# EAGLE library part TCA62724 (library tmxk)
Toshiba TCA62724FMG I2C RGB LED driver
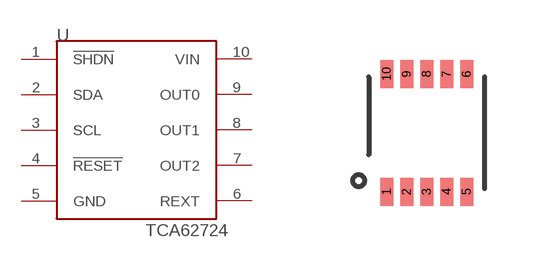
[diagram p31: symbol with the pads of SON10; footprint SON10]

Designator prefix U

## TCA62724  [SON10]
1  !SHDN  in
2  SDA
3  SCL
4  !RESET  in
5  GND  pwr
6  REXT
7  OUT2  oc
8  OUT1  oc
9  OUT0  oc
10  VIN  pwr

## Footprint SON10 (pad centres in mm)
smd 0.32 x 0.7: 1 -1,-1.475; 2 -0.5,-1.475; 3 0,-1.475; 4 0.5,-1.475; 5 1,-1.475; 6 1,1.475; 7 0.5,1.475; 8 0,1.475; 9 -0.5,1.475; 10 -1,1.475